# Altium footprint library SPM6530T-1R0M120.PcbLib: 1 footprints
Each footprint in its own frame and in the unit in brackets; x right, y up, seen from the top. Pads: shape width x height; smd on the part's side, far side on the other; paste and mask are expansions set on the pad; w line width, h text height; cw(c..) or ccw(c..) is an arc to the next point about the centre after c.
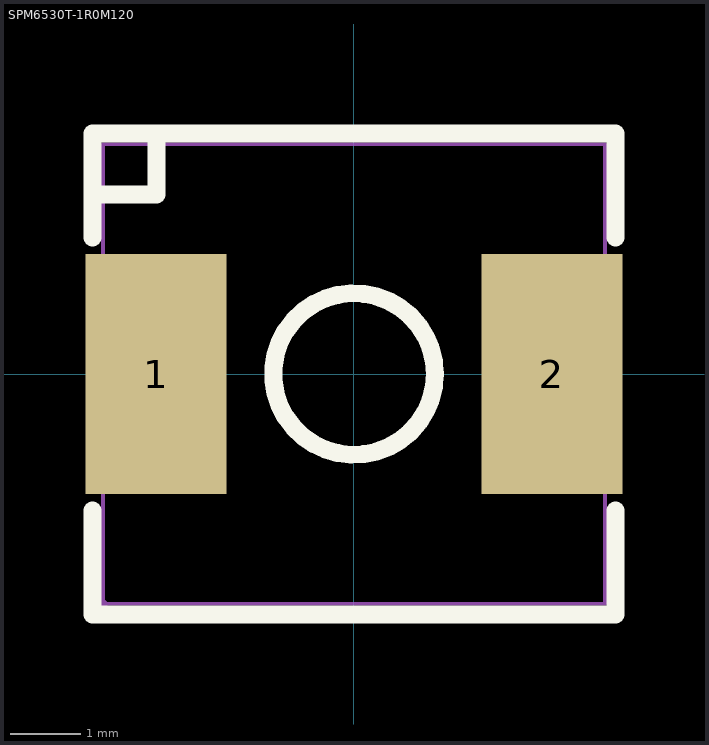
[diagram p0: the footprint, top view; thin cyan lines are the x and y axes]

## SPM6530T-1R0M120 [mm]
pads (2):
  rect 2x3.4 smd: 1(-2.794,0) 2(2.806,0)
Top Overlay:
  circle w0.254: c0.006,0 r1.143
  lines w0.254: -3.694,-3.4 -3.694,-1.931 ; -3.694,1.931 -3.694,3.4 3.706,3.4 3.706,1.931 ; -3.693,-3.4 3.707,-3.4 ; -3.55,2.54 -2.788,2.54 -2.788,3.302 ; 3.706,-3.4 3.706,-1.931
Mechanical 15:
  region: -3.544,1.6 -1.994,1.6 -1.994,-1.6 -3.544,-1.6
  region: 2.006,1.6 3.556,1.6 3.556,-1.6 2.006,-1.6
  region: -3.484,-3.25 -3.484,-3.275 -3.519,-3.31 -3.569,-3.31 -3.604,-3.275 -3.604,-3.25 -3.604,-3.225 -3.569,-3.19 -3.519,-3.19 -3.484,-3.225 -3.484,-3.25
  lines w0.051: -3.544,-3.25 3.556,-3.25 3.556,3.25 -3.544,3.25 -3.544,-3.25